# Altium footprint library 2023-12-6.PcbLib: 16 footprints
Each footprint in its own frame and in the unit in brackets; x right, y up, seen from the top. Pads: shape width x height; smd on the part's side, far side on the other; paste and mask are expansions set on the pad; w line width, h text height; cw(c..) or ccw(c..) is an arc to the next point about the centre after c.
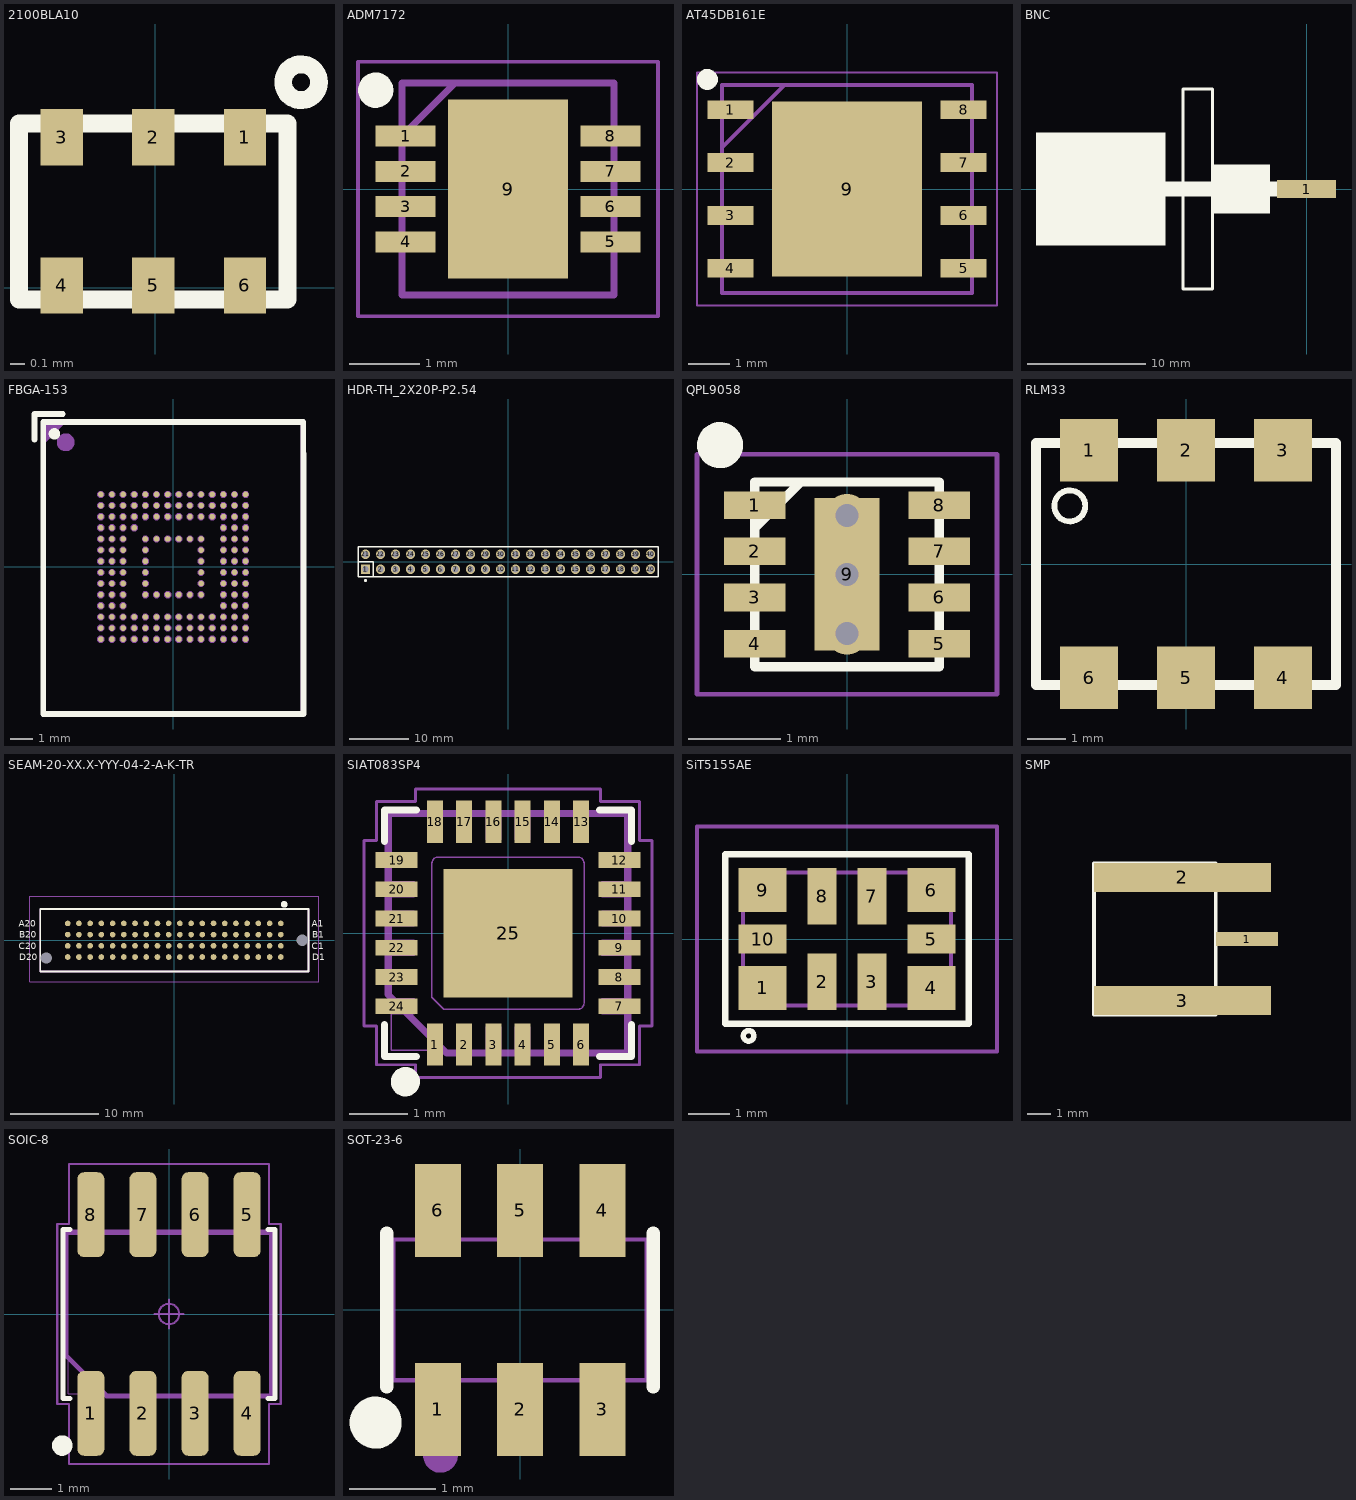
[diagram p0: the footprints below, top view; thin cyan lines are the x and y axes]

## 2100BLA10 [mm]
pads (6):
  rect 0.3x0.4 smd: 1(0.635,1.066) 2(-0.015,1.066) 3(-0.665,1.066) 4(-0.665,0.016) 5(-0.015,0.016) 6(0.635,0.016)
Top Overlay:
  circle w0.127: c1.033,1.458 r0.127
  lines w0.127: -0.968,-0.084 -0.968,1.166 0.937,1.166 0.938,-0.084 -0.967,-0.084

## ADM7172 [mm]
pads (9):
  rect 0.85x0.3 smd: 1(-1.45,0.75) 2(-1.45,0.25) 3(-1.45,-0.25) 4(-1.45,-0.75) 5(1.45,-0.75) 6(1.45,-0.25) 7(1.45,0.25) 8(1.45,0.75)
  rect 1.7x2.54 smd: 9(0,0)
Top Overlay:
  circle w0.25: c-1.875,1.4 r0.125
Mechanical 13:
  lines w0.1: -1.5,0.75 -0.75,1.5 ; -1.5,-1.5 1.5,-1.5 1.5,1.5 -1.5,1.5 -1.5,-1.5
Mechanical 15:
  lines w0.05: -2.125,-1.8 2.125,-1.8 2.125,1.8 -2.125,1.8 -2.125,-1.8
3D body "ADM7172ACPZ-3.3-R7.stp": height 0.8, standoff 0, extent -1.55,-1.5 1.55,1.5

## AT45DB161E [mm]
pads (9):
  rect 1.1x0.45 smd: 1(-2.8,1.905) 2(-2.8,0.635) 3(-2.8,-0.635) 4(-2.8,-1.905) 5(2.8,-1.905) 6(2.8,-0.635) 7(2.8,0.635) 8(2.8,1.905)
  rect 3.6x4.2 smd: 9(0,0)
Top Overlay:
  circle w0.25: c-3.35,2.63 r0.125
Mechanical 13:
  lines w0.1: -3,1 -1.5,2.5 ; -3,-2.5 -3,2.5 3,2.5 3,-2.5 -3,-2.5
Mechanical 15:
  lines w0.05: -3.6,-2.8 -3.6,2.8 3.6,2.8 3.6,-2.8 -3.6,-2.8
3D body "AT45DB161E-MHF-T.stp": height 0.6, standoff 0, extent -3.05,-2.5 3.05,2.5

## BNC [mm]
pads (1):
  rect 5x1.5 smd: 1(0,0)
Top Overlay:
  region: -2.5,0.635 -23,0.635 -23,-0.635 -2.5,-0.635
  region: -12,-4.8 -12,4.8 -23,4.8 -23,-4.8
  rectangle: -8.127,-2.1 -3.127,2.1
  lines w0.254: -10.5,-8.5 -10.5,8.5 -8,8.5 -8,-8.5 -10.5,-8.5

## FBGA-153 [mm] "KLMBG2JETD-B041,FBGA-153_L13.0-W11.5-P0.50_KLMAG1JETD-B041"
pads (153):
  round 0.25 smd paste-100 mask+0.05: A1(-3.25,3.25) A2(-2.75,3.25) A3(-2.25,3.25) A4(-1.75,3.25) A5(-1.25,3.25) A6(-0.75,3.25) A7(-0.25,3.25) A8(0.25,3.25) A9(0.75,3.25) A10(1.25,3.25) A11(1.75,3.25) A12(2.25,3.25) A13(2.75,3.25) A14(3.25,3.25) B1(-3.25,2.75) B2(-2.75,2.75) B3(-2.25,2.75) B4(-1.75,2.75) B5(-1.25,2.75) B6(-0.75,2.75) B7(-0.25,2.75) B8(0.25,2.75) B9(0.75,2.75) B10(1.25,2.75) B11(1.75,2.75) B12(2.25,2.75) B13(2.75,2.75) B14(3.25,2.75) C1(-3.25,2.25) C2(-2.75,2.25) C3(-2.25,2.25) C4(-1.75,2.25) C5(-1.25,2.25) C6(-0.75,2.25) C7(-0.25,2.25) C8(0.25,2.25) C9(0.75,2.25) C10(1.25,2.25) C11(1.75,2.25) C12(2.25,2.25) C13(2.75,2.25) C14(3.25,2.25) D1(-3.25,1.75) D2(-2.75,1.75) D3(-2.25,1.75) D4(-1.75,1.75) D12(2.25,1.75) D13(2.75,1.75) D14(3.25,1.75) E1(-3.25,1.25) E2(-2.75,1.25) E3(-2.25,1.25) E5(-1.25,1.25) E6(-0.75,1.25) E7(-0.25,1.25) E8(0.25,1.25) E9(0.75,1.25) E10(1.25,1.25) E12(2.25,1.25) E13(2.75,1.25) E14(3.25,1.25) F1(-3.25,0.75) F2(-2.75,0.75) F3(-2.25,0.75) F5(-1.25,0.75) F10(1.25,0.75) F12(2.25,0.75) F13(2.75,0.75) F14(3.25,0.75) G1(-3.25,0.25) G2(-2.75,0.25) G3(-2.25,0.25) G5(-1.25,0.25) G10(1.25,0.25) G12(2.25,0.25) G13(2.75,0.25) G14(3.25,0.25) H1(-3.25,-0.25) H2(-2.75,-0.25) H3(-2.25,-0.25) H5(-1.25,-0.25) H10(1.25,-0.25) H12(2.25,-0.25) H13(2.75,-0.25) H14(3.25,-0.25) J1(-3.25,-0.75) J2(-2.75,-0.75) J3(-2.25,-0.75) J5(-1.25,-0.75) J10(1.25,-0.75) J12(2.25,-0.75) J13(2.75,-0.75) J14(3.25,-0.75) K1(-3.25,-1.25) K2(-2.75,-1.25) K3(-2.25,-1.25) K5(-1.25,-1.25) K6(-0.75,-1.25) K7(-0.25,-1.25) K8(0.25,-1.25) K9(0.75,-1.25) K10(1.25,-1.25) K12(2.25,-1.25) K13(2.75,-1.25) K14(3.25,-1.25) L1(-3.25,-1.75) L2(-2.75,-1.75) L3(-2.25,-1.75) L12(2.25,-1.75) L13(2.75,-1.75) L14(3.25,-1.75) M1(-3.25,-2.25) M2(-2.75,-2.25) M3(-2.25,-2.25) M4(-1.75,-2.25) M5(-1.25,-2.25) M6(-0.75,-2.25) M7(-0.25,-2.25) M8(0.25,-2.25) M9(0.75,-2.25) M10(1.25,-2.25) M11(1.75,-2.25) M12(2.25,-2.25) M13(2.75,-2.25) M14(3.25,-2.25) N1(-3.25,-2.75) N2(-2.75,-2.75) N3(-2.25,-2.75) N4(-1.75,-2.75) N5(-1.25,-2.75) N6(-0.75,-2.75) N7(-0.25,-2.75) N8(0.25,-2.75) N9(0.75,-2.75) N10(1.25,-2.75) N11(1.75,-2.75) N12(2.25,-2.75) N13(2.75,-2.75) N14(3.25,-2.75) P1(-3.25,-3.25) P2(-2.75,-3.25) P3(-2.25,-3.25) P4(-1.75,-3.25) P5(-1.25,-3.25) P6(-0.75,-3.25) P7(-0.25,-3.25) P8(0.25,-3.25) P9(0.75,-3.25) P10(1.25,-3.25) P11(1.75,-3.25) P12(2.25,-3.25) P13(2.75,-3.25) P14(3.25,-3.25)
Top Overlay:
  circle w0.254: c-5.334,5.969 r0.127
  lines w0.254: -6.223,5.715 -6.223,6.858 -4.953,6.858 ; -5.841,-6.605 5.843,-6.605 5.843,5.079 ; -5.841,-6.5 -5.841,6.5 5.842,6.5 5.842,5.079
Top Paste:
  drawing of 153 lines, arcs and shapes, not listed
Mechanical 6:
  circle w0.4: c-4.826,5.588 r0.2
  region: -4.826,6.477 -5.715,6.477 -5.715,5.588
Mechanical 15:
  drawing of 158 lines, arcs and shapes, not listed

## HDR-TH_2X20P-P2.54 [mm]
pads (40):
  rect 1.6x1.6 hole 1.05: 1(-24.13,-1.27)
  round 1.6 hole 1.05: 2(-21.59,-1.27) 3(-19.05,-1.27) 4(-16.51,-1.27) 5(-13.97,-1.27) 6(-11.43,-1.27) 7(-8.89,-1.27) 8(-6.35,-1.27) 9(-3.81,-1.27) 10(-1.27,-1.27) 11(1.27,-1.27) 12(3.81,-1.27) 13(6.35,-1.27) 14(8.89,-1.27) 15(11.43,-1.27) 16(13.97,-1.27) 17(16.51,-1.27) 18(19.05,-1.27) 19(21.59,-1.27) 20(24.13,-1.27) 21(-24.13,1.27) 22(-21.59,1.27) 23(-19.05,1.27) 24(-16.51,1.27) 25(-13.97,1.27) 26(-11.43,1.27) 27(-8.89,1.27) 28(-6.35,1.27) 29(-3.81,1.27) 30(-1.27,1.27) 31(1.27,1.27) 32(3.81,1.27) 33(6.35,1.27) 34(8.89,1.27) 35(11.43,1.27) 36(13.97,1.27) 37(16.51,1.27) 38(19.05,1.27) 39(21.59,1.27) 40(24.13,1.27)
Top Overlay:
  circle w0.254: c-24.13,-3.175 r0.127
  lines w0.254: -25.4,0 -22.86,0 -22.86,-2.54 ; -25.4,-2.54 0,-2.54 25.4,-2.54 25.4,2.54 0,2.54 -25.4,2.54 -25.4,-2.54

## QPL9058 [mm]
pads (9):
  rect 0.67x0.3 smd: 1(-1,0.75) 2(-1,0.25) 3(-1,-0.25) 4(-1,-0.75) 5(1,-0.75) 6(1,-0.25) 7(1,0.25) 8(1,0.75)
  rect 0.7x1.65 smd: 9(0,0)
via 0,-0.64 diameter 0.457 hole 0.25
via 0,0 diameter 0.457 hole 0.25
via 0,0.64 diameter 0.457 hole 0.25
Top Overlay:
  circle w0.25: c-1.375,1.4 r0.125
  lines w0.1: -1,0.5 -0.5,1 ; -1,-1 -1,1 1,1 1,-1 -1,-1
Mechanical 15:
  lines w0.05: -1.625,-1.3 1.625,-1.3 1.625,1.3 -1.625,1.3 -1.625,-1.3
3D body "QPL9058TR7.stp": height 0.9, standoff 0, extent -1.05,-1 1.05,1

## RLM33 [mm]
pads (6):
  rect 1.52x1.65 smd: 1(-2.54,2.985) 2(0,2.985) 3(2.54,2.985) 4(2.54,-2.985) 5(0,-2.985) 6(-2.54,-2.985)
Top Overlay:
  circle w0.152: c-3.048,1.524 r0.406
  lines w0.254: -3.935,-3.175 -3.935,3.175 3.935,3.175 3.935,-3.175 -3.935,-3.175
3D body: height 4.06, standoff 0, extent -3.935,-3.175 3.935,3.175

## seam20x4 [mm]

## SEAM-20-XX.X-YYY-04-2-A-K-TR [mm]
pads (82):
  round 0.635 hole 1.27 unplated: 81(-14.49,-2.01) 82(14.49,0)
  round 0.64 smd: A1(12.065,1.905) A2(10.795,1.905) A3(9.525,1.905) A4(8.255,1.905) A5(6.985,1.905) A6(5.715,1.905) A7(4.445,1.905) A8(3.175,1.905) A9(1.905,1.905) A10(0.635,1.905) A11(-0.635,1.905) A12(-1.905,1.905) A13(-3.175,1.905) A14(-4.445,1.905) A15(-5.715,1.905) A16(-6.985,1.905) A17(-8.255,1.905) A18(-9.525,1.905) A19(-10.795,1.905) A20(-12.065,1.905) B1(12.065,0.635) B2(10.795,0.635) B3(9.525,0.635) B4(8.255,0.635) B5(6.985,0.635) B6(5.715,0.635) B7(4.445,0.635) B8(3.175,0.635) B9(1.905,0.635) B10(0.635,0.635) B11(-0.635,0.635) B12(-1.905,0.635) B13(-3.175,0.635) B14(-4.445,0.635) B15(-5.715,0.635) B16(-6.985,0.635) B17(-8.255,0.635) B18(-9.525,0.635) B19(-10.795,0.635) B20(-12.065,0.635) C1(12.065,-0.635) C2(10.795,-0.635) C3(9.525,-0.635) C4(8.255,-0.635) C5(6.985,-0.635) C6(5.715,-0.635) C7(4.445,-0.635) C8(3.175,-0.635) C9(1.905,-0.635) C10(0.635,-0.635) C11(-0.635,-0.635) C12(-1.905,-0.635) C13(-3.175,-0.635) C14(-4.445,-0.635) C15(-5.715,-0.635) C16(-6.985,-0.635) C17(-8.255,-0.635) C18(-9.525,-0.635) C19(-10.795,-0.635) C20(-12.065,-0.635) D1(12.065,-1.905) D2(10.795,-1.905) D3(9.525,-1.905) D4(8.255,-1.905) D5(6.985,-1.905) D6(5.715,-1.905) D7(4.445,-1.905) D8(3.175,-1.905) D9(1.905,-1.905) D10(0.635,-1.905) D11(-0.635,-1.905) D12(-1.905,-1.905) D13(-3.175,-1.905) D14(-4.445,-1.905) D15(-5.715,-1.905) D16(-6.985,-1.905) D17(-8.255,-1.905) D18(-9.525,-1.905) D19(-10.795,-1.905) D20(-12.065,-1.905)
Top Overlay:
  circle w0.508: c12.446,4.064 r0.127
  lines w0.1: -15.19,-3.53 15.19,-3.53 ; -15.19,3.53 15.19,3.53
  lines w0.2: -15.19,-3.53 -15.19,3.53 15.19,3.53 15.19,-3.53 -15.19,-3.53
  text "D20" at -17.544,-2.286 h0.76
  text "C20" at -17.583,-1.016 h0.76
  text "B20" at -17.544,0.254 h0.76
  text "A20" at -17.583,1.524 h0.76
  text "D1" at 15.603,-2.286 h0.76
  text "C1" at 15.564,-1.016 h0.76
  text "B1" at 15.603,0.254 h0.76
  text "A1" at 15.564,1.524 h0.76
Mechanical 13:
  lines w0.2: -15.19,-3.53 -15.19,3.53 15.19,3.53 15.19,-3.53 -15.19,-3.53
Mechanical 15:
  lines w0.05: -16.39,-4.73 -16.39,5.005 16.39,5.005 16.39,-4.73 -16.39,-4.73
3D body "SEAM-20-03.5-S-04-2-A-K-TR.stp": height 14.56, standoff -1.32, extent -15.189,-4.026 15.189,4.306

## SIAT083SP4 [mm] "Quad Flat No-Lead (QFN) with tab, 0.50 mm pitch; 25 pin, square, 6 pin X 6 pin, 4.00 mm L X 4.00 mm W X 0.50 mm H body"
height 0.5
pads (25):
  rect 0.27x0.72 smd: 1(-1.25,-1.905) 2(-0.75,-1.905) 3(-0.25,-1.905) 4(0.25,-1.905) 5(0.75,-1.905) 6(1.25,-1.905) 13(1.25,1.905) 14(0.75,1.905) 15(0.25,1.905) 16(-0.25,1.905) 17(-0.75,1.905) 18(-1.25,1.905)
  rect 0.72x0.27 smd: 7(1.905,-1.25) 8(1.905,-0.75) 9(1.905,-0.25) 10(1.905,0.25) 11(1.905,0.75) 12(1.905,1.25) 19(-1.905,1.25) 20(-1.905,0.75) 21(-1.905,0.25) 22(-1.905,-0.25) 23(-1.905,-0.75) 24(-1.905,-1.25)
  rect 2.2x2.2 smd paste-2.2 mask-2.2: 25(0,0)
Top Overlay:
  circle w0.25: c-1.755,-2.54 r0.125
  lines w0.12: -2.11,-1.565 -2.11,-2.11 -1.565,-2.11 ; -2.11,1.565 -2.11,2.11 -1.565,2.11 ; 1.565,-2.11 2.11,-2.11 2.11,-1.565 ; 1.565,2.11 2.11,2.11 2.11,1.565
Top Paste:
  region: -0.147,0.147 -1.153,0.147 -1.153,1.153 -0.147,1.153
  region: -0.147,-1.125 -1.125,-1.125 -1.125,-0.147 -0.147,-0.147
  region: 1.153,0.147 0.147,0.147 0.147,1.153 1.153,1.153
  region: 1.153,-1.153 0.147,-1.153 0.147,-0.147 1.153,-0.147
Top Solder:
  region: 1.3,0 1.3,-1.2 1.299,-1.216 1.295,-1.231 1.289,-1.245 1.281,-1.259 1.271,-1.271 1.259,-1.281 1.245,-1.289 1.231,-1.295 1.216,-1.299 -1.1,-1.3 -1.3,-1.1 -1.3,1.2 -1.299,1.216 -1.295,1.231 -1.289,1.245 -1.281,1.259 -1.271,1.271 -1.259,1.281 -1.245,1.289 -1.231,1.295 -1.216,1.299 1.2,1.3 1.216,1.299 1.231,1.295 1.245,1.289 1.259,1.281 1.271,1.271 1.281,1.259 1.289,1.245 1.295,1.231 1.299,1.216 1.3,1.2
Mechanical 11:
  lines w0.12: -2.05,-1.05 -2.05,2.05 2.05,2.05 2.05,-2.05 -1.05,-2.05 -2.05,-1.05
Mechanical 12:
  lines w0.025: -2,-2 2,-2 2,2 -2,2 -2,-2 ; -2,-1.375 -2,-1.125 -1.6,-1.125 -1.6,-1.375 -2,-1.375 ; -2,-0.875 -2,-0.625 -1.6,-0.625 -1.6,-0.875 -2,-0.875 ; -2,-0.375 -2,-0.125 -1.6,-0.125 -1.6,-0.375 -2,-0.375 ; -2,0.125 -2,0.375 -1.6,0.375 -1.6,0.125 -2,0.125 ; -2,0.625 -2,0.875 -1.6,0.875 -1.6,0.625 -2,0.625 ; -2,1.125 -2,1.375 -1.6,1.375 -1.6,1.125 -2,1.125 ; -1.375,-2 -1.375,-1.6 -1.125,-1.6 -1.125,-2 -1.375,-2 ; -1.375,1.6 -1.375,2 -1.125,2 -1.125,1.6 -1.375,1.6 ; -1.3,-1.1 -1.1,-1.3 1.2,-1.3 ccw(c1.2,-1.2) 1.3,-1.2 1.3,1.2 ccw(c1.2,1.2) 1.2,1.3 -1.2,1.3 ccw(c-1.2,1.2) -1.3,1.2 -1.3,-1.1 ; -0.875,-2 -0.875,-1.6 -0.625,-1.6 -0.625,-2 -0.875,-2 ; -0.875,1.6 -0.875,2 -0.625,2 -0.625,1.6 -0.875,1.6 ; -0.375,-2 -0.375,-1.6 -0.125,-1.6 -0.125,-2 -0.375,-2 ; -0.375,1.6 -0.375,2 -0.125,2 -0.125,1.6 -0.375,1.6 ; 0.125,-2 0.125,-1.6 0.375,-1.6 0.375,-2 0.125,-2 ; 0.125,1.6 0.125,2 0.375,2 0.375,1.6 0.125,1.6 ; 0.625,-2 0.625,-1.6 0.875,-1.6 0.875,-2 0.625,-2 ; 0.625,1.6 0.625,2 0.875,2 0.875,1.6 0.625,1.6 ; 1.125,-2 1.125,-1.6 1.375,-1.6 1.375,-2 1.125,-2 ; 1.125,1.6 1.125,2 1.375,2 1.375,1.6 1.125,1.6 ; 1.6,-1.375 2,-1.375 2,-1.125 1.6,-1.125 1.6,-1.375 ; 1.6,-0.875 2,-0.875 2,-0.625 1.6,-0.625 1.6,-0.875 ; 1.6,-0.375 2,-0.375 2,-0.125 1.6,-0.125 1.6,-0.375 ; 1.6,0.125 2,0.125 2,0.375 1.6,0.375 1.6,0.125 ; 1.6,0.625 2,0.625 2,0.875 1.6,0.875 1.6,0.625 ; 1.6,1.125 2,1.125 2,1.375 1.6,1.375 1.6,1.125
Mechanical 15:
  circle w0.05: c0,0 r0.25
  lines w0.05: -0.35,0 0.35,0 ; 0,-0.35 0,0.35 ; -2.465,-1.585 -2.25,-1.585 -2.25,-2.25 -1.585,-2.25 -1.585,-2.465 1.585,-2.465 1.585,-2.25 2.25,-2.25 2.25,-1.585 2.465,-1.585 2.465,1.585 2.25,1.585 2.25,2.25 1.585,2.25 1.585,2.465 -1.585,2.465 -1.585,2.25 -2.25,2.25 -2.25,1.585 -2.465,1.585 -2.465,-1.585
3D body "QFN25P50_400X400X50L40X25T260-LQ.STEP": height 0.5, standoff 0, extent -2,-2 2,2

## SiT5155AE [mm]
pads (10):
  rect 1.15x1.05 smd: 1(-2.025,-1.175) 4(2.025,-1.175) 6(2.025,1.175) 9(-2.025,1.175)
  rect 0.7x1.35 smd: 2(-0.6,-1.025) 3(0.6,-1.025) 7(0.6,1.025) 8(-0.6,1.025)
  rect 1.15x0.7 smd: 5(2.025,0) 10(-2.025,0)
Top Overlay:
  circle w0.127: c-2.361,-2.325 r0.127
  lines w0.152: -2.921,-2.032 2.921,-2.032 2.921,2.032 -2.921,2.032 -2.921,-2.032
Mechanical 13:
  lines w0.1: -2.5,-1.6 -2.5,1.6 2.5,1.6 2.5,-1.6 -2.5,-1.6
Mechanical 15:
  lines w0.1: -3.6,-2.7 -3.6,2.7 3.6,2.7 3.6,-2.7 -3.6,-2.7
3D body "SiT5155AE-FK-33N0-25.000000.stp": height 1.1, standoff 0, extent -2.53,-1.63 2.53,1.63

## SMP [mm]
pads (3):
  rect 2.6x0.6 smd: 1(21.877,120.107)
  rect 7.4x1.2 smd: 2(19.177,122.682) 3(19.177,117.532)
Top Overlay:
  lines w0.152: 15.477,116.932 15.477,123.282 20.577,123.282 20.577,116.932 15.477,116.932
Drill Drawing:
  lines w0.152: 15.477,117.957 20.577,117.957 20.577,122.257 15.477,122.257 15.477,117.957
  text "CUT_OUT" at 16.637,119.927 h0.76

## SMP-J [mm]

## SOIC-8 [mm] "Small Outline IC (SOIC), 1.27 mm pitch; 8 pin, 4.925 mm L X 3.90 mm W X 1.75 mm H body"
height 1.75
pads (8):
  rrect50% 0.659x2.072 smd: 1(-1.905,-2.421) 2(-0.635,-2.421) 3(0.635,-2.421) 4(1.905,-2.421) 5(1.905,2.421) 6(0.635,2.421) 7(-0.635,2.421) 8(-1.905,2.421)
Top Overlay:
  circle w0.25: c-2.604,-3.207 r0.125
  lines w0.12: -2.414,-2.055 -2.585,-2.055 -2.585,2.055 -2.414,2.055 ; 2.414,-2.055 2.585,-2.055 2.585,2.055 2.414,2.055
Mechanical 11:
  lines w0.12: -2.525,-0.995 -1.525,-1.995 2.525,-1.995 2.525,1.995 -2.525,1.995 -2.525,-0.995
Mechanical 12:
  lines w0.025: -2.462,-1.95 -2.462,1.95 2.462,1.95 2.462,-1.95 -2.462,-1.95 ; -2.11,-2.998 -1.7,-2.998 -1.7,-2.162 -2.11,-2.162 -2.11,-2.998 ; -2.11,2.162 -1.7,2.162 -1.7,2.998 -2.11,2.998 -2.11,2.162 ; -0.84,-2.998 -0.43,-2.998 -0.43,-2.162 -0.84,-2.162 -0.84,-2.998 ; -0.84,2.162 -0.43,2.162 -0.43,2.998 -0.84,2.998 -0.84,2.162 ; 0.43,-2.998 0.84,-2.998 0.84,-2.162 0.43,-2.162 0.43,-2.998 ; 0.43,2.162 0.84,2.162 0.84,2.998 0.43,2.998 0.43,2.162 ; 1.7,-2.998 2.11,-2.998 2.11,-2.162 1.7,-2.162 1.7,-2.998 ; 1.7,2.162 2.11,2.162 2.11,2.998 1.7,2.998 1.7,2.162
Mechanical 15:
  circle w0.05: c0,0 r0.25
  lines w0.05: -0.35,0 0.35,0 ; 0,-0.35 0,0.35 ; -2.725,-2.195 -2.725,2.195 -2.434,2.195 -2.434,3.657 2.434,3.657 2.434,2.195 2.725,2.195 2.725,-2.195 2.434,-2.195 2.434,-3.657 -2.434,-3.657 -2.434,-2.195 -2.725,-2.195
3D body "SOIC8P127_492X599X175L83X41-LQ.STEP": height 1.75, standoff 0, extent -2.462,-1.95 2.462,1.95

## SOT-23-6 [mm] "GM836-ADJXN6G/TR-SOT-23-6_L2.9-W1.6-P0.95-LS2.8-BL"
pads (6):
  rect 0.532x1.072 smd: 1(-0.95,-1.149) 2(0,-1.149) 3(0.95,-1.149) 4(0.95,1.149) 5(0,1.149) 6(-0.95,1.149)
Top Overlay:
  circle w0.3: c-1.668,-1.301 r0.15
  lines w0.152: -1.539,-0.889 -1.539,0.889 ; 1.539,-0.889 1.539,0.889
Mechanical 6:
  circle w0.2: c-0.92,-1.68 r0.1
Mechanical 15:
  region: -1.165,0.935 -0.735,0.935 -0.735,0.803 -1.165,0.803
  region: -1.165,0.925 -0.735,0.925 -0.735,1.4 -1.165,1.4
  region: -0.215,0.935 0.215,0.935 0.215,0.803 -0.215,0.803
  region: -0.215,0.925 0.215,0.925 0.215,1.4 -0.215,1.4
  region: 0.735,0.935 1.165,0.935 1.165,0.803 0.735,0.803
  region: 0.735,0.925 1.165,0.925 1.165,1.4 0.735,1.4
  region: 0.735,-0.803 1.165,-0.803 1.165,-0.935 0.735,-0.935
  region: 0.735,-0.925 1.165,-0.925 1.165,-1.4 0.735,-1.4
  region: -0.215,-0.803 0.215,-0.803 0.215,-0.935 -0.215,-0.935
  region: -0.215,-0.925 0.215,-0.925 0.215,-1.4 -0.215,-1.4
  region: -1.165,-0.803 -0.735,-0.803 -0.735,-0.935 -1.165,-0.935
  region: -1.165,-0.925 -0.735,-0.925 -0.735,-1.4 -1.165,-1.4
  region: -1.403,-1.4 -1.403,-1.375 -1.438,-1.34 -1.488,-1.34 -1.523,-1.375 -1.523,-1.4 -1.523,-1.425 -1.488,-1.46 -1.438,-1.46 -1.403,-1.425 -1.403,-1.4
  lines w0.051: -1.463,-0.813 -1.463,0.813 1.463,0.813 1.463,-0.813 -1.463,-0.813